# Altium schematic symbol library Zener.SchLib: 2 symbols
Pins are listed as number, name and electrical type; pins without a type are passive.

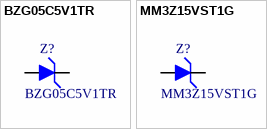
[diagram p0: symbols BZG05C5V1TR to MM3Z15VST1G]

## BZG05C5V1TR
designator Z?
DIODE ZENER 5.1V 1.25W DO214AC; Manufacturer: Vishay Semiconductor; Supplier 1: Farnell; Supplier Part Number 1: 5215973; Manufacturer Part Number: BZG05C5V1TR; ComponentLink1URL: http://www.vishay.com/docs/85893/bzg05c.pdf; ComponentLink1Description: Datasheet; Value: 5.1V; Type: Zener
footprint SMA, DO-214AC (Case 403D-02)
pins: 1 "A", 2 "K"

## MM3Z15VST1G
designator Z?
DIODE ZENER 14.6V 300mW SOD323; Manufacturer: ON Semiconductor; Manufacturer Part Number: MM3Z15VST1G; ComponentLink1URL: http://www.farnell.com/datasheets/2028649.pdf; ComponentLink1Description: Datasheet; Value: 14.6V; Supplier 1: Farnell; Supplier Part Number 1: 2533369; Type: Zener
footprint SOD-323 (SOD-323/SC-76; 2 Leads; Body 1.7 x 1.3 mm, (LxW))
pins: 1 "A", 2 "K"